# EAGLE library part 610*16243021 (library power_distribution)
16-Pin Bottom Entry Connector from Würth Elektronik
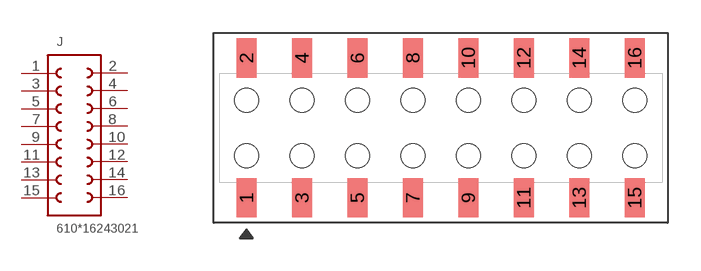
[diagram p1: symbol with the pads of 610X16243021; footprint 610X16243021]

Designator prefix J

## 61016243021, 610016243021 (MF: Würth Elektronik; MPN: 610016243021), 610316243021 (MF: Würth Elektronik; MPN: 610316243021)  [610X16243021]
1  1  pas
2  16  pas
3  2  pas
4  15  pas
5  3  pas
6  14  pas
7  4  pas
8  13  pas
9  5  pas
10  12  pas
11  6  pas
12  11  pas
13  7  pas
14  10  pas
15  8  pas
16  9  pas

## Footprint 610X16243021 (pad centres in mm)
WR-PHD 2.54mm SMT Dual Socket Header Bottom Entry, 16 Pins
smd 0.9 x 1.8: 1 -8.89,-3.2; 2 -8.89,3.2; 3 -6.35,-3.2; 4 -6.35,3.2; 5 -3.81,-3.2; 6 -3.81,3.2; 7 -1.27,-3.2; 8 -1.27,3.2; 9 1.27,-3.2; 10 1.27,3.2; 11 3.81,-3.2; 12 3.81,3.2; 13 6.35,-3.2; 14 6.35,3.2; 15 8.89,-3.2; 16 8.89,3.2
hole 1.1 at -8.89,1.27
hole 1.1 at -6.35,1.27
hole 1.1 at -6.35,-1.27
hole 1.1 at -8.89,-1.27
hole 1.1 at -3.81,1.27
hole 1.1 at -3.81,-1.27
hole 1.1 at -1.27,1.27
hole 1.1 at -1.27,-1.27
hole 1.1 at 1.27,-1.27
hole 1.1 at 1.27,1.27
hole 1.1 at 3.81,1.27
hole 1.1 at 3.81,-1.27
hole 1.1 at 6.35,-1.27
hole 1.1 at 6.35,1.27
hole 1.1 at 8.89,1.27
hole 1.1 at 8.89,-1.27